# EAGLE library part WL-SFTW_5050_PLCC6 (library we-led)
WL-SFTW SMD Full-color TOP LED Waterclear Characteristics PLCC 4, PLCC 6 Low energy consumption High reliability Low current requirement Fast switching No UV/IR radiation High brightness RGB individual control Compact package outline PLCC 4: black surface PLCC 6: white surface Applications PLCC 4: Size 3528 Flash light, switch indicators, equipments indicators, accent and decorative lighting, electronic signage, video displays, backlight for LCDs, PDAs and TVs, vven, microwave, street lighting, ideal for lateral coupling in light guides PLCC 6: Size 3528 TV backlighting, color splashing walls, accent and decorative lighting, optical indicator and RGB LEDs strips PLCC 6: Size 5050 Optical indicator, equipments indicators, electronic signage, interior lighting, wide range of accent and decorative lighting, full color message and displays video boards, consumer appliances: backlight LCDs, PDAs, TVs, industry white goods such as ovens, microwaves, etc. and RGB LEDs strips <https://katalog.we-online.com/media/images/v2/o14903v209%20Family_WL-SFTW-neu.jpg> Details see: https://katalog.we-online.com/en/led/WL-SFTW Created By Ella Wu 2019-06-10 2018 (C) Wurth Elektronik
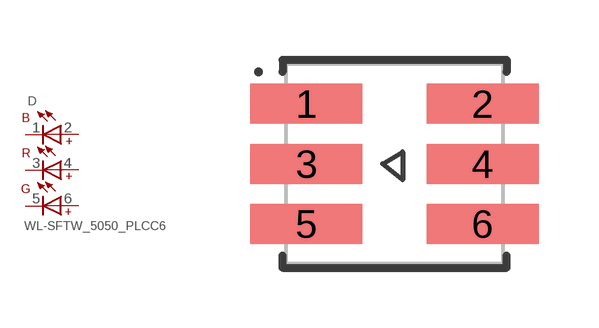
[diagram p3: symbol with the pads of WL-SFTW_5050_PLCC6; footprint WL-SFTW_5050_PLCC6]

Designator prefix D

## WL-SFTW_5050_PLCC6_150505M173300 (WE-NUMBER: 150505M173300)  [WL-SFTW_5050_PLCC6]
1  1  pas
2  2  pas
3  3  pas
4  4  pas
5  5  pas
6  6  pas

## Footprint WL-SFTW_5050_PLCC6 (pad centres in mm)
smd 2.8 x 1: 1 -2.2,1.5; 2 2.2,1.5; 3 -2.2,0; 4 2.2,0; 5 -2.2,-1.5; 6 2.2,-1.5